# EAGLE library part QIK_2S9V1 (library Misc-Phi-Comp)
Polulu QIK 2S9V1 Motor Controller
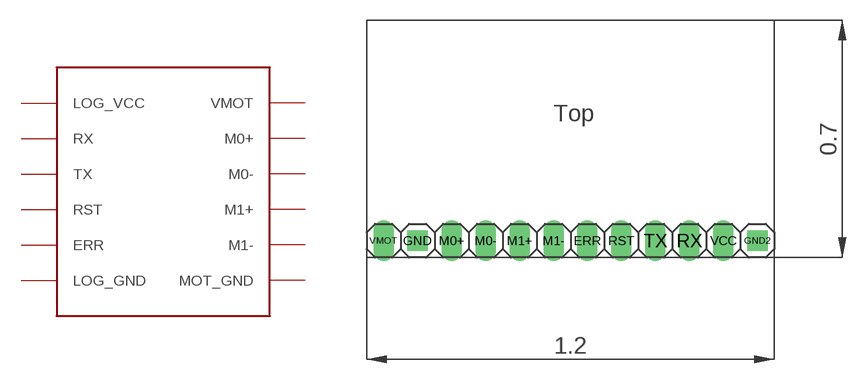
[diagram p0: symbol with the pads of QIK_2S9V1_BOARD; footprint QIK_2S9V1_BOARD]

Designator prefix -

## QIK_2S9V1  [QIK_2S9V1_BOARD]
ERR  ERR
GND  LOG_GND
GND2  MOT_GND
M0+  M0+
M0-  M0-
M1+  M1+
M1-  M1-
RST  RST
RX  RX
TX  TX
VCC  LOG_VCC
VMOT  VMOT

## Footprint QIK_2S9V1_BOARD (pad centres in mm)
drill 1.016 long: ERR 2.54,0; M0+ -7.62,0; M0- -5.08,0; M1+ -2.54,0; M1- 0,0; RST 5.08,0; RX 10.16,0; TX 7.62,0; VCC 12.7,0; VMOT -12.7,0
drill 1.016 square: GND -10.16,0; GND2 15.24,0